# Altium schematic symbol library iv_buttons.SchLib: 1 symbol
Pins are listed as number, name and electrical type; pins without a type are passive.

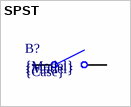
[diagram p0: symbol SPST]

## SPST
designator B?, comment {Model}  Case: {Case}
Model: {Model}
pins: 1, 2